# Altium schematic symbol library EMK212BB7475MD-T.SchLib: 1 symbol
Pins are listed as number, name and electrical type; pins without a type are passive.

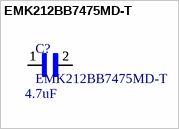
[diagram p0: symbol EMK212BB7475MD-T]

## EMK212BB7475MD-T
designator C?  value 4.7uF
CAP CER 4.7UF 16V X7R 0805
footprint EMK212BB7475MD-T
pins: 1, 1, 2, 2